# Altium schematic symbol library SMD-RES-39R-5_-1_10W_0603_.SchLib: 1 symbol
Pins are listed as number, name and electrical type; pins without a type are passive.

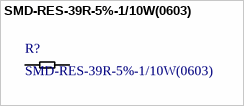
[diagram p0: symbol SMD-RES-39R-5%-1/10W(0603)]

## SMD-RES-39R-5%-1/10W(0603)
designator R?
Surface Mount Thick Film Resistor, RC Series, 39 ohm, 100 mW, - 5%, 50 V, 0603 [1608 Metric]; MF: Yageo; MP: RC0603JR-0739RL; Digi-Key_Part_Number: 311-39GRCT-ND; Digi-Key_Purchase_URL: https://www.digikey.pt/product-detail/en/yageo/RC0603JR-0739RL/311-39GRCT-ND/729726?utm_source=snapeda&utm_medium=aggregator&utm_campaign=symbol; Package: 0603 Yageo; SnapEDA_Link: https://www.snapeda.com/parts/RC0603JR-0739RL/Yageo/view-part/?ref=snap; Value: *
footprint R0603
pins: 1, 2